# Altium schematic symbol library SamacSys.SchLib: 4 symbols
Pins are listed as number, name and electrical type; pins without a type are passive.

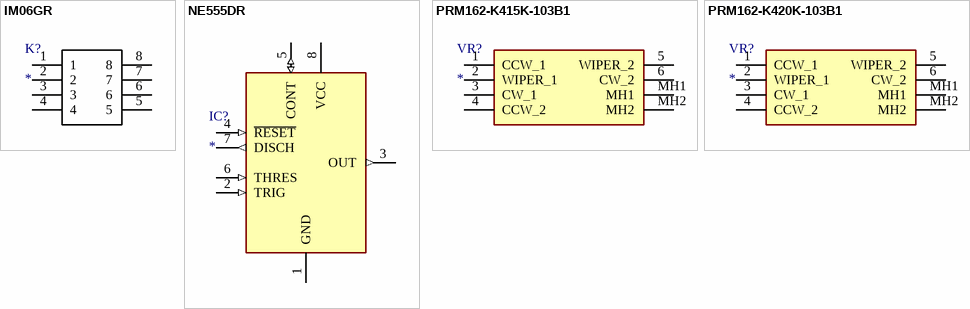
[diagram p0: symbols IM06GR to PRM162-K420K-103B1]

## IM06GR
designator K?
Relay or Contactor; Manufacturer_Name: TE Connectivity; Manufacturer_Part_Number: IM06GR; Description: DPDT telecom SMT relay; Datasheet Link: https://datasheet.datasheetarchive.com/originals/distributors/Datasheets_SAMA/af0478e68580ade93768a4593bd7be66.pdf; Mouser Part Number: 655-IM06GR; Mouser Price/Stock: https://www.mouser.co.uk/ProductDetail/TE-Connectivity/IM06GR?qs=CYMZr0Hm9rcOFFXIittlkQ%3D%3D; Arrow Part Number: IM06GR; Arrow Price/Stock: https://www.arrow.com/en/products/im06gr/te-connectivity?region=nac
footprint IM06GR
pins: 1, 2, 3, 4, 5, 6, 7, 8

## NE555DR
designator IC?
Integrated Circuit; Manufacturer_Name: Texas Instruments; Manufacturer_Part_Number: NE555DR; Datasheet Link: http://www.ti.com/lit/ds/symlink/ne555.pdf; Height: 1.75mm; Mouser Part Number: 595-NE555DR; Mouser Price/Stock: https://www.mouser.com/Search/Refine.aspx?Keyword=595-NE555DR; RS Part Number: 1218414; RS Price/Stock: http://uk.rs-online.com/web/p/products/1218414
footprint SOIC127P600X175-8N
pins: 1 GND (power), 2 TRIG (in), 3 OUT (out), 4 ~{RESET} (in), 5 CONT (io), 6 THRES (in), 7 DISCH (out), 8 VCC (power)

## PRM162-K415K-103B1
designator VR?
Variable Resistor; Manufacturer_Name: Bourns; Manufacturer_Part_Number: PRM162-K415K-103B1; Datasheet Link: https://www.bourns.com/docs/product-datasheets/PDB18.pdf; Height: 28.5mm; Mouser Part Number: 652-PRM162K415K103B1; Mouser Price/Stock: https://www.mouser.com/Search/Refine.aspx?Keyword=652-PRM162K415K103B1
footprint PRM162K415K103B1
pins: 1 CCW_1, 2 WIPER_1, 3 CW_1, 4 CCW_2, 5 WIPER_2, 6 CW_2, MH1, MH2

## PRM162-K420K-103B1
designator VR?
Variable Resistor; Manufacturer_Name: Bourns; Manufacturer_Part_Number: PRM162-K420K-103B1; Datasheet Link: https://www.bourns.com/docs/product-datasheets/PDB18.pdf; Height: 28.5mm; Mouser Part Number: 652-PRM162K420K103B1; Mouser Price/Stock: https://www.mouser.co.uk/ProductDetail/Bourns/PRM162-K420K-103B1?qs=U%2FacTlguYxaZbpiLvzzeCA%3D%3D; Arrow Part Number: PRM162-K420K-103B1; Arrow Price/Stock: https://www.arrow.com/en/products/prm162-k420k-103b1/bourns?region=nac
footprint PRM162K415K103B1
pins: 1 CCW_1, 2 WIPER_1, 3 CW_1, 4 CCW_2, 5 WIPER_2, 6 CW_2, MH1, MH2